# Altium schematic symbol library Teensy.SchLib: 1 symbol
Pins are listed as number, name and electrical type; pins without a type are passive.

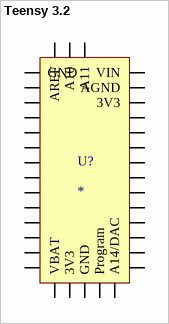
[diagram p0: symbol Teensy 3.2]

## Teensy 3.2
designator U?
TEENSY 3.2 K20 EVAL BRD; Manufacturer: SparkFun; Manufacturer Part Number: DEV-13736; Supplier 1: Digi-Key; Supplier Part Number 1: 1568-1231-ND; Stock 1: 0; Pricing 1: 1 = 22.50000 (USD); RoHS: No; ComponentLink1URL: https://cdn.sparkfun.com/datasheets/Dev/Arduino/Boards/K20P64M72SF1.pdf?src-supplier=Digi-Key; ComponentLink1Description: https://cdn.sparkfun.com/datasheets/Dev/Arduino/Boards/K20P64M72SF1.pdf?src-supplier=Digi-Key
footprint Teensy 3.2
pins: 1 GND, 2 0, 3 1, 4 2, 5 3, 6 4, 7 5, 8 6, 9 7, 10 8, 11 9, 12 10, 13 11, 14 12, 15 31, 16 32, 17 33, 18 34, 19 35, 20 36, 21 37, 22 38, 23 39, 24 40, 25 41, 26 3V3, 27 AGND, 28 VIN, 29 VBAT, 30 3V3, 31 GND, 32 Program, 33 A14/DAC, 34 AREF, 35 A10, 36 A11